# EAGLE library part TERMINAL-BLOCK-2.54MM-8PINS (library Terminal Block 2.54mm 8 Pins)
Terminal Block 2.54mm 8 Pins Terminal Blocks 8 Pins
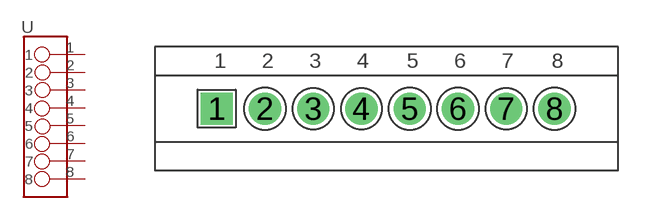
[diagram p0: symbol with the pads of TERMINAL-BLOCK-2.54MM-8PINS; footprint TERMINAL-BLOCK-2.54MM-8PINS]

Designator prefix -

## TERMINAL-BLOCK-2.54MM-8PINS  [TERMINAL-BLOCK-2.54MM-8PINS]
1  1
2  2
3  3
4  4
5  5
6  6
7  7
8  8

## Footprint TERMINAL-BLOCK-2.54MM-8PINS (pad centres in mm)
drill 1.1 pad 1.7 square: 1 0,0
drill 1.1 pad 1.7: 2 2.54,0; 3 5.08,0; 4 7.62,0; 5 10.16,0; 6 12.7,0; 7 15.24,0; 8 17.78,0